# Altium footprint library MF-200.PcbLib: 1 footprints
Each footprint in its own frame and in the unit in brackets; x right, y up, seen from the top. Pads: shape width x height; smd on the part's side, far side on the other; paste and mask are expansions set on the pad; w line width, h text height; cw(c..) or ccw(c..) is an arc to the next point about the centre after c.
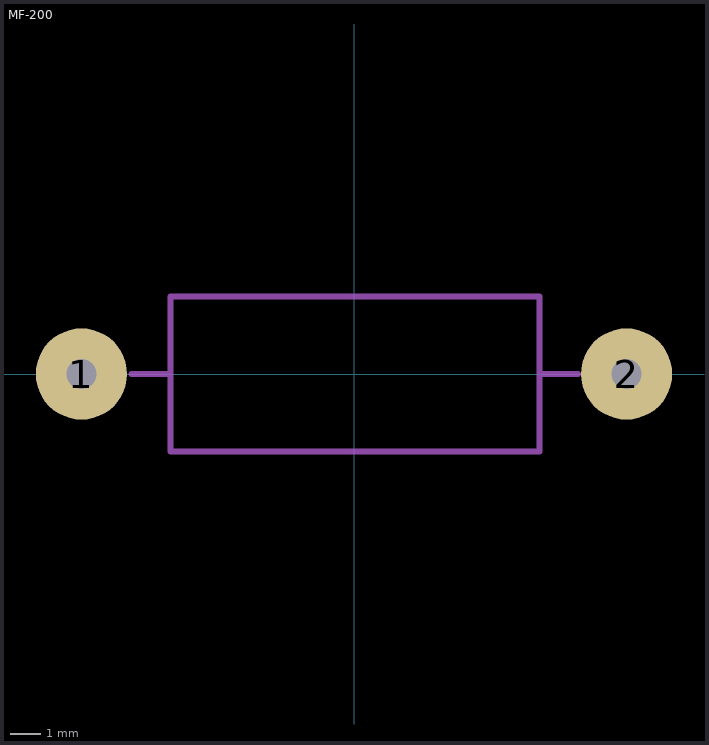
[diagram p0: the footprint, top view; thin cyan lines are the x and y axes]

## MF-200 [mm]
pads (2):
  round 3 hole 1: 1(-8.954,0) 2(8.954,0)
Mechanical 13:
  lines w0.2: -7.302,0 -6.032,0 ; 6.096,0 7.366,0 ; -6.032,-2.54 -6.032,2.54 6.096,2.54 6.096,-2.54 -6.032,-2.54
  text ".Designator" at -5.651,-0.508 h2.5
3D body: height 7.3, standoff -2.3, extent -9.335,-3.3 9.265,3.3